# EAGLE library part HFS12R2 (library 0CON_THOMAS_BETTS)
THOMAS&BETTS
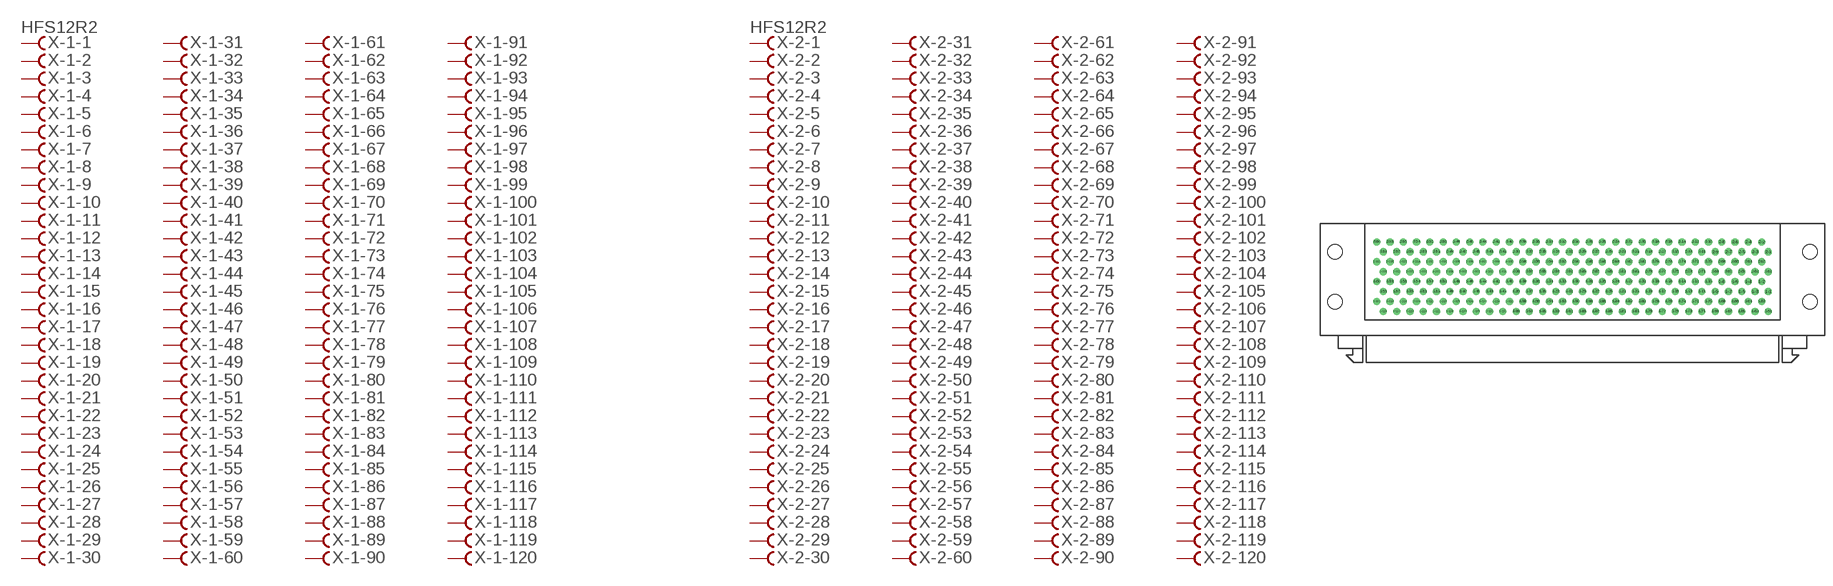
[diagram p10: symbol with the pads of HFS12R; footprint HFS12R]

Designator prefix X; gates -1-1=FV -1-2=F -1-3=F -1-4=F -1-5=F -1-6=F -1-7=F -1-8=F -1-9=F -1-10=F -1-11=F -1-12=F -1-13=F -1-14=F -1-15=F -1-16=F -1-17=F -1-18=F -1-19=F -1-20=F -1-21=F -1-22=F -1-23=F -1-24=F -1-25=F -1-26=F -1-27=F -1-28=F -1-29=F -1-30=F -1-31=F -1-32=F -1-33=F -1-34=F -1-35=F -1-36=F -1-37=F -1-38=F -1-39=F -1-40=F -1-41=F -1-42=F -1-43=F -1-44=F -1-45=F -1-46=F -1-47=F -1-48=F -1-49=F -1-50=F -1-51=F -1-52=F -1-53=F -1-54=F -1-55=F -1-56=F -1-57=F -1-58=F -1-59=F -1-60=F -1-61=F -1-62=F -1-63=F -1-64=F -1-65=F -1-66=F -1-67=F -1-68=F -1-69=F -1-70=F -1-71=F -1-72=F -1-73=F -1-74=F -1-75=F -1-76=F -1-77=F -1-78=F -1-79=F -1-80=F -1-81=F -1-82=F -1-83=F -1-84=F -1-85=F -1-86=F -1-87=F -1-88=F -1-89=F -1-90=F -1-91=F -1-92=F -1-93=F -1-94=F -1-95=F -1-96=F -1-97=F -1-98=F -1-99=F -1-100=F -1-101=F -1-102=F -1-103=F -1-104=F -1-105=F -1-106=F -1-107=F -1-108=F -1-109=F -1-110=F -1-111=F -1-112=F -1-113=F -1-114=F -1-115=F -1-116=F -1-117=F -1-118=F -1-119=F -1-120=F -2-1=FV -2-2=F -2-3=F -2-4=F -2-5=F -2-6=F -2-7=F -2-8=F -2-9=F -2-10=F -2-11=F -2-12=F -2-13=F -2-14=F -2-15=F -2-16=F -2-17=F -2-18=F -2-19=F -2-20=F -2-21=F -2-22=F -2-23=F -2-24=F -2-25=F -2-26=F -2-27=F -2-28=F -2-29=F -2-30=F -2-31=F -2-32=F -2-33=F -2-34=F -2-35=F -2-36=F -2-37=F -2-38=F -2-39=F -2-40=F -2-41=F -2-42=F -2-43=F -2-44=F -2-45=F -2-46=F -2-47=F -2-48=F -2-49=F -2-50=F -2-51=F -2-52=F -2-53=F -2-54=F -2-55=F -2-56=F -2-57=F -2-58=F -2-59=F -2-60=F -2-61=F -2-62=F -2-63=F -2-64=F -2-65=F -2-66=F -2-67=F -2-68=F -2-69=F -2-70=F -2-71=F -2-72=F -2-73=F -2-74=F -2-75=F -2-76=F -2-77=F -2-78=F -2-79=F -2-80=F -2-81=F -2-82=F -2-83=F -2-84=F -2-85=F -2-86=F -2-87=F -2-88=F -2-89=F -2-90=F -2-91=F -2-92=F -2-93=F -2-94=F -2-95=F -2-96=F -2-97=F -2-98=F -2-99=F -2-100=F -2-101=F -2-102=F -2-103=F -2-104=F -2-105=F -2-106=F -2-107=F -2-108=F -2-109=F -2-110=F -2-111=F -2-112=F -2-113=F -2-114=F -2-115=F -2-116=F -2-117=F -2-118=F -2-119=F -2-120=F

## HFS12R2  [HFS12R]
1-1  -1-1:F  pas
1-2  -1-2:F  pas
1-3  -1-3:F  pas
1-4  -1-4:F  pas
1-5  -1-5:F  pas
1-6  -1-6:F  pas
1-7  -1-7:F  pas
1-8  -1-8:F  pas
1-9  -1-9:F  pas
1-10  -1-10:F  pas
1-11  -1-11:F  pas
1-12  -1-12:F  pas
1-13  -1-13:F  pas
1-14  -1-14:F  pas
1-15  -1-15:F  pas
1-16  -1-16:F  pas
1-17  -1-17:F  pas
1-18  -1-18:F  pas
1-19  -1-19:F  pas
1-20  -1-20:F  pas
1-21  -1-21:F  pas
1-22  -1-22:F  pas
1-23  -1-23:F  pas
1-24  -1-24:F  pas
1-25  -1-25:F  pas
1-26  -1-26:F  pas
1-27  -1-27:F  pas
1-28  -1-28:F  pas
1-29  -1-29:F  pas
1-30  -1-30:F  pas
1-31  -1-31:F  pas
1-32  -1-32:F  pas
1-33  -1-33:F  pas
1-34  -1-34:F  pas
1-35  -1-35:F  pas
1-36  -1-36:F  pas
1-37  -1-37:F  pas
1-38  -1-38:F  pas
1-39  -1-39:F  pas
1-40  -1-40:F  pas
1-41  -1-41:F  pas
1-42  -1-42:F  pas
1-43  -1-43:F  pas
1-44  -1-44:F  pas
1-45  -1-45:F  pas
1-46  -1-46:F  pas
1-47  -1-47:F  pas
1-48  -1-48:F  pas
1-49  -1-49:F  pas
1-50  -1-50:F  pas
1-51  -1-51:F  pas
1-52  -1-52:F  pas
1-53  -1-53:F  pas
1-54  -1-54:F  pas
1-55  -1-55:F  pas
1-56  -1-56:F  pas
1-57  -1-57:F  pas
1-58  -1-58:F  pas
1-59  -1-59:F  pas
1-60  -1-60:F  pas
1-61  -1-61:F  pas
1-62  -1-62:F  pas
1-63  -1-63:F  pas
1-64  -1-64:F  pas
1-65  -1-65:F  pas
1-66  -1-66:F  pas
1-67  -1-67:F  pas
1-68  -1-68:F  pas
1-69  -1-69:F  pas
1-70  -1-70:F  pas
1-71  -1-71:F  pas
1-72  -1-72:F  pas
1-73  -1-73:F  pas
1-74  -1-74:F  pas
1-75  -1-75:F  pas
1-76  -1-76:F  pas
1-77  -1-77:F  pas
1-78  -1-78:F  pas
1-79  -1-79:F  pas
1-80  -1-80:F  pas
1-81  -1-81:F  pas
1-82  -1-82:F  pas
1-83  -1-83:F  pas
1-84  -1-84:F  pas
1-85  -1-85:F  pas
1-86  -1-86:F  pas
1-87  -1-87:F  pas
1-88  -1-88:F  pas
1-89  -1-89:F  pas
1-90  -1-90:F  pas
1-91  -1-91:F  pas
1-92  -1-92:F  pas
1-93  -1-93:F  pas
1-94  -1-94:F  pas
1-95  -1-95:F  pas
1-96  -1-96:F  pas
1-97  -1-97:F  pas
1-98  -1-98:F  pas
1-99  -1-99:F  pas
1-100  -1-100:F  pas
1-101  -1-101:F  pas
1-102  -1-102:F  pas
1-103  -1-103:F  pas
1-104  -1-104:F  pas
1-105  -1-105:F  pas
1-106  -1-106:F  pas
1-107  -1-107:F  pas
1-108  -1-108:F  pas
1-109  -1-109:F  pas
1-110  -1-110:F  pas
1-111  -1-111:F  pas
1-112  -1-112:F  pas
1-113  -1-113:F  pas
1-114  -1-114:F  pas
1-115  -1-115:F  pas
1-116  -1-116:F  pas
1-117  -1-117:F  pas
1-118  -1-118:F  pas
1-119  -1-119:F  pas
1-120  -1-120:F  pas
2-1  -2-1:F  pas
2-2  -2-2:F  pas
2-3  -2-3:F  pas
2-4  -2-4:F  pas
2-5  -2-5:F  pas
2-6  -2-6:F  pas
2-7  -2-7:F  pas
2-8  -2-8:F  pas
2-9  -2-9:F  pas
2-10  -2-10:F  pas
2-11  -2-11:F  pas
2-12  -2-12:F  pas
2-13  -2-13:F  pas
2-14  -2-14:F  pas
2-15  -2-15:F  pas
2-16  -2-16:F  pas
2-17  -2-17:F  pas
2-18  -2-18:F  pas
2-19  -2-19:F  pas
2-20  -2-20:F  pas
2-21  -2-21:F  pas
2-22  -2-22:F  pas
2-23  -2-23:F  pas
2-24  -2-24:F  pas
2-25  -2-25:F  pas
2-26  -2-26:F  pas
2-27  -2-27:F  pas
2-28  -2-28:F  pas
2-29  -2-29:F  pas
2-30  -2-30:F  pas
2-31  -2-31:F  pas
2-32  -2-32:F  pas
2-33  -2-33:F  pas
2-34  -2-34:F  pas
2-35  -2-35:F  pas
2-36  -2-36:F  pas
2-37  -2-37:F  pas
2-38  -2-38:F  pas
2-39  -2-39:F  pas
2-40  -2-40:F  pas
2-41  -2-41:F  pas
2-42  -2-42:F  pas
2-43  -2-43:F  pas
2-44  -2-44:F  pas
2-45  -2-45:F  pas
2-46  -2-46:F  pas
2-47  -2-47:F  pas
2-48  -2-48:F  pas
2-49  -2-49:F  pas
2-50  -2-50:F  pas
2-51  -2-51:F  pas
2-52  -2-52:F  pas
2-53  -2-53:F  pas
2-54  -2-54:F  pas
2-55  -2-55:F  pas
2-56  -2-56:F  pas
2-57  -2-57:F  pas
2-58  -2-58:F  pas
2-59  -2-59:F  pas
2-60  -2-60:F  pas
2-61  -2-61:F  pas
2-62  -2-62:F  pas
2-63  -2-63:F  pas
2-64  -2-64:F  pas
2-65  -2-65:F  pas
2-66  -2-66:F  pas
2-67  -2-67:F  pas
2-68  -2-68:F  pas
2-69  -2-69:F  pas
2-70  -2-70:F  pas
2-71  -2-71:F  pas
2-72  -2-72:F  pas
2-73  -2-73:F  pas
2-74  -2-74:F  pas
2-75  -2-75:F  pas
2-76  -2-76:F  pas
2-77  -2-77:F  pas
2-78  -2-78:F  pas
2-79  -2-79:F  pas
2-80  -2-80:F  pas
2-81  -2-81:F  pas
2-82  -2-82:F  pas
2-83  -2-83:F  pas
2-84  -2-84:F  pas
2-85  -2-85:F  pas
2-86  -2-86:F  pas
2-87  -2-87:F  pas
2-88  -2-88:F  pas
2-89  -2-89:F  pas
2-90  -2-90:F  pas
2-91  -2-91:F  pas
2-92  -2-92:F  pas
2-93  -2-93:F  pas
2-94  -2-94:F  pas
2-95  -2-95:F  pas
2-96  -2-96:F  pas
2-97  -2-97:F  pas
2-98  -2-98:F  pas
2-99  -2-99:F  pas
2-100  -2-100:F  pas
2-101  -2-101:F  pas
2-102  -2-102:F  pas
2-103  -2-103:F  pas
2-104  -2-104:F  pas
2-105  -2-105:F  pas
2-106  -2-106:F  pas
2-107  -2-107:F  pas
2-108  -2-108:F  pas
2-109  -2-109:F  pas
2-110  -2-110:F  pas
2-111  -2-111:F  pas
2-112  -2-112:F  pas
2-113  -2-113:F  pas
2-114  -2-114:F  pas
2-115  -2-115:F  pas
2-116  -2-116:F  pas
2-117  -2-117:F  pas
2-118  -2-118:F  pas
2-119  -2-119:F  pas
2-120  -2-120:F  pas

## Footprint HFS12R (pad centres in mm)
THOMAS&BETTS
drill 0.864 octagon: 1-1 37.465,6.985; 2-1 37.465,14.605
drill 0.864 round: 1-2 36.195,8.89; 1-3 34.925,6.985; 1-4 33.655,8.89; 1-5 32.385,6.985; 1-6 31.115,8.89; 1-7 29.845,6.985; 1-8 28.575,8.89; 1-9 27.305,6.985; 1-10 26.035,8.89; 1-11 24.765,6.985; 1-12 23.495,8.89; 1-13 22.225,6.985; 1-14 20.955,8.89; 1-15 19.685,6.985; 1-16 18.415,8.89; 1-17 17.145,6.985; 1-18 15.875,8.89; 1-19 14.605,6.985; 1-20 13.335,8.89; 1-21 12.065,6.985; 1-22 10.795,8.89; 1-23 9.525,6.985; 1-24 8.255,8.89; 1-25 6.985,6.985; 1-26 5.715,8.89; 1-27 4.445,6.985; 1-28 3.175,8.89; 1-29 1.905,6.985; 1-30 0.635,8.89; 1-31 -0.635,6.985; 1-32 -1.905,8.89; 1-33 -3.175,6.985; 1-34 -4.445,8.89; 1-35 -5.715,6.985; 1-36 -6.985,8.89; 1-37 -8.255,6.985; 1-38 -9.525,8.89; 1-39 -10.795,6.985; 1-40 -12.065,8.89; 1-41 -13.335,6.985; 1-42 -14.605,8.89; 1-43 -15.875,6.985; 1-44 -17.145,8.89; 1-45 -18.415,6.985; 1-46 -19.685,8.89; 1-47 -20.955,6.985; 1-48 -22.225,8.89; 1-49 -23.495,6.985; 1-50 -24.765,8.89; 1-51 -26.035,6.985; 1-52 -27.305,8.89; 1-53 -28.575,6.985; 1-54 -29.845,8.89; 1-55 -31.115,6.985; 1-56 -32.385,8.89; 1-57 -33.655,6.985; 1-58 -34.925,8.89; 1-59 -36.195,6.985; 1-60 -37.465,8.89; 1-61 37.465,3.175; 1-62 36.195,5.08; 1-63 34.925,3.175; 1-64 33.655,5.08; 1-65 32.385,3.175; 1-66 31.115,5.08; 1-67 29.845,3.175; 1-68 28.575,5.08; 1-69 27.305,3.175; 1-70 26.035,5.08; 1-71 24.765,3.175; 1-72 23.495,5.08; 1-73 22.225,3.175; 1-74 20.955,5.08; 1-75 19.685,3.175; 1-76 18.415,5.08; 1-77 17.145,3.175; 1-78 15.875,5.08; 1-79 14.605,3.175; 1-80 13.335,5.08; 1-81 12.065,3.175; 1-82 10.795,5.08; 1-83 9.525,3.175; 1-84 8.255,5.08; 1-85 6.985,3.175; 1-86 5.715,5.08; 1-87 4.445,3.175; 1-88 3.175,5.08; 1-89 1.905,3.175; 1-90 0.635,5.08; 1-91 -0.635,3.175; 1-92 -1.905,5.08; 1-93 -3.175,3.175; 1-94 -4.445,5.08; 1-95 -5.715,3.175; 1-96 -6.985,5.08; 1-97 -8.255,3.175; 1-98 -9.525,5.08; 1-99 -10.795,3.175; 1-100 -12.065,5.08; 1-101 -13.335,3.175; 1-102 -14.605,5.08; 1-103 -15.875,3.175; 1-104 -17.145,5.08; 1-105 -18.415,3.175; 1-106 -19.685,5.08; 1-107 -20.955,3.175; 1-108 -22.225,5.08; 1-109 -23.495,3.175; 1-110 -24.765,5.08; 1-111 -26.035,3.175; 1-112 -27.305,5.08; 1-113 -28.575,3.175; 1-114 -29.845,5.08; 1-115 -31.115,3.175; 1-116 -32.385,5.08; 1-117 -33.655,3.175; 1-118 -34.925,5.08; 1-119 -36.195,3.175; 1-120 -37.465,5.08; 2-2 36.195,16.51; 2-3 34.925,14.605; 2-4 33.655,16.51; 2-5 32.385,14.605; 2-6 31.115,16.51; 2-7 29.845,14.605; 2-8 28.575,16.51; 2-9 27.305,14.605; 2-10 26.035,16.51; 2-11 24.765,14.605; 2-12 23.495,16.51; 2-13 22.225,14.605; 2-14 20.955,16.51; 2-15 19.685,14.605; 2-16 18.415,16.51; 2-17 17.145,14.605; 2-18 15.875,16.51; 2-19 14.605,14.605; 2-20 13.335,16.51; 2-21 12.065,14.605; 2-22 10.795,16.51; 2-23 9.525,14.605; 2-24 8.255,16.51; 2-25 6.985,14.605; 2-26 5.715,16.51; 2-27 4.445,14.605; 2-28 3.175,16.51; 2-29 1.905,14.605; 2-30 0.635,16.51; 2-31 -0.635,14.605; 2-32 -1.905,16.51; 2-33 -3.175,14.605; 2-34 -4.445,16.51; 2-35 -5.715,14.605; 2-36 -6.985,16.51; 2-37 -8.255,14.605; 2-38 -9.525,16.51; 2-39 -10.795,14.605; 2-40 -12.065,16.51; 2-41 -13.335,14.605; 2-42 -14.605,16.51; 2-43 -15.875,14.605; 2-44 -17.145,16.51; 2-45 -18.415,14.605; 2-46 -19.685,16.51; 2-47 -20.955,14.605; 2-48 -22.225,16.51; 2-49 -23.495,14.605; 2-50 -24.765,16.51; 2-51 -26.035,14.605; 2-52 -27.305,16.51; 2-53 -28.575,14.605; 2-54 -29.845,16.51; 2-55 -31.115,14.605; 2-56 -32.385,16.51; 2-57 -33.655,14.605; 2-58 -34.925,16.51; 2-59 -36.195,14.605; 2-60 -37.465,16.51; 2-61 37.465,10.795; 2-62 36.195,12.7; 2-63 34.925,10.795; 2-64 33.655,12.7; 2-65 32.385,10.795; 2-66 31.115,12.7; 2-67 29.845,10.795; 2-68 28.575,12.7; 2-69 27.305,10.795; 2-70 26.035,12.7; 2-71 24.765,10.795; 2-72 23.495,12.7; 2-73 22.225,10.795; 2-74 20.955,12.7; 2-75 19.685,10.795; 2-76 18.415,12.7; 2-77 17.145,10.795; 2-78 15.875,12.7; 2-79 14.605,10.795; 2-80 13.335,12.7; 2-81 12.065,10.795; 2-82 10.795,12.7; 2-83 9.525,10.795; 2-84 8.255,12.7; 2-85 6.985,10.795; 2-86 5.715,12.7; 2-87 4.445,10.795; 2-88 3.175,12.7; 2-89 1.905,10.795; 2-90 0.635,12.7; 2-91 -0.635,10.795; 2-92 -1.905,12.7; 2-93 -3.175,10.795; 2-94 -4.445,12.7; 2-95 -5.715,10.795; 2-96 -6.985,12.7; 2-97 -8.255,10.795; 2-98 -9.525,12.7; 2-99 -10.795,10.795; 2-100 -12.065,12.7; 2-101 -13.335,10.795; 2-102 -14.605,12.7; 2-103 -15.875,10.795; 2-104 -17.145,12.7; 2-105 -18.415,10.795; 2-106 -19.685,12.7; 2-107 -20.955,10.795; 2-108 -22.225,12.7; 2-109 -23.495,10.795; 2-110 -24.765,12.7; 2-111 -26.035,10.795; 2-112 -27.305,12.7; 2-113 -28.575,10.795; 2-114 -29.845,12.7; 2-115 -31.115,10.795; 2-116 -32.385,12.7; 2-117 -33.655,10.795; 2-118 -34.925,12.7; 2-119 -36.195,10.795; 2-120 -37.465,12.7
hole 2.769 at 45.466,5.08
hole 2.769 at -45.466,5.08
hole 2.769 at 45.466,14.605
hole 2.769 at -45.466,14.605